# Altium footprint library PcbLib1.PcbLib: 37 footprints (part 1 of 3)
Each footprint in its own frame and in the unit in brackets; x right, y up, seen from the top. Pads: shape width x height; smd on the part's side, far side on the other; paste and mask are expansions set on the pad; w line width, h text height; cw(c..) or ccw(c..) is an arc to the next point about the centre after c.
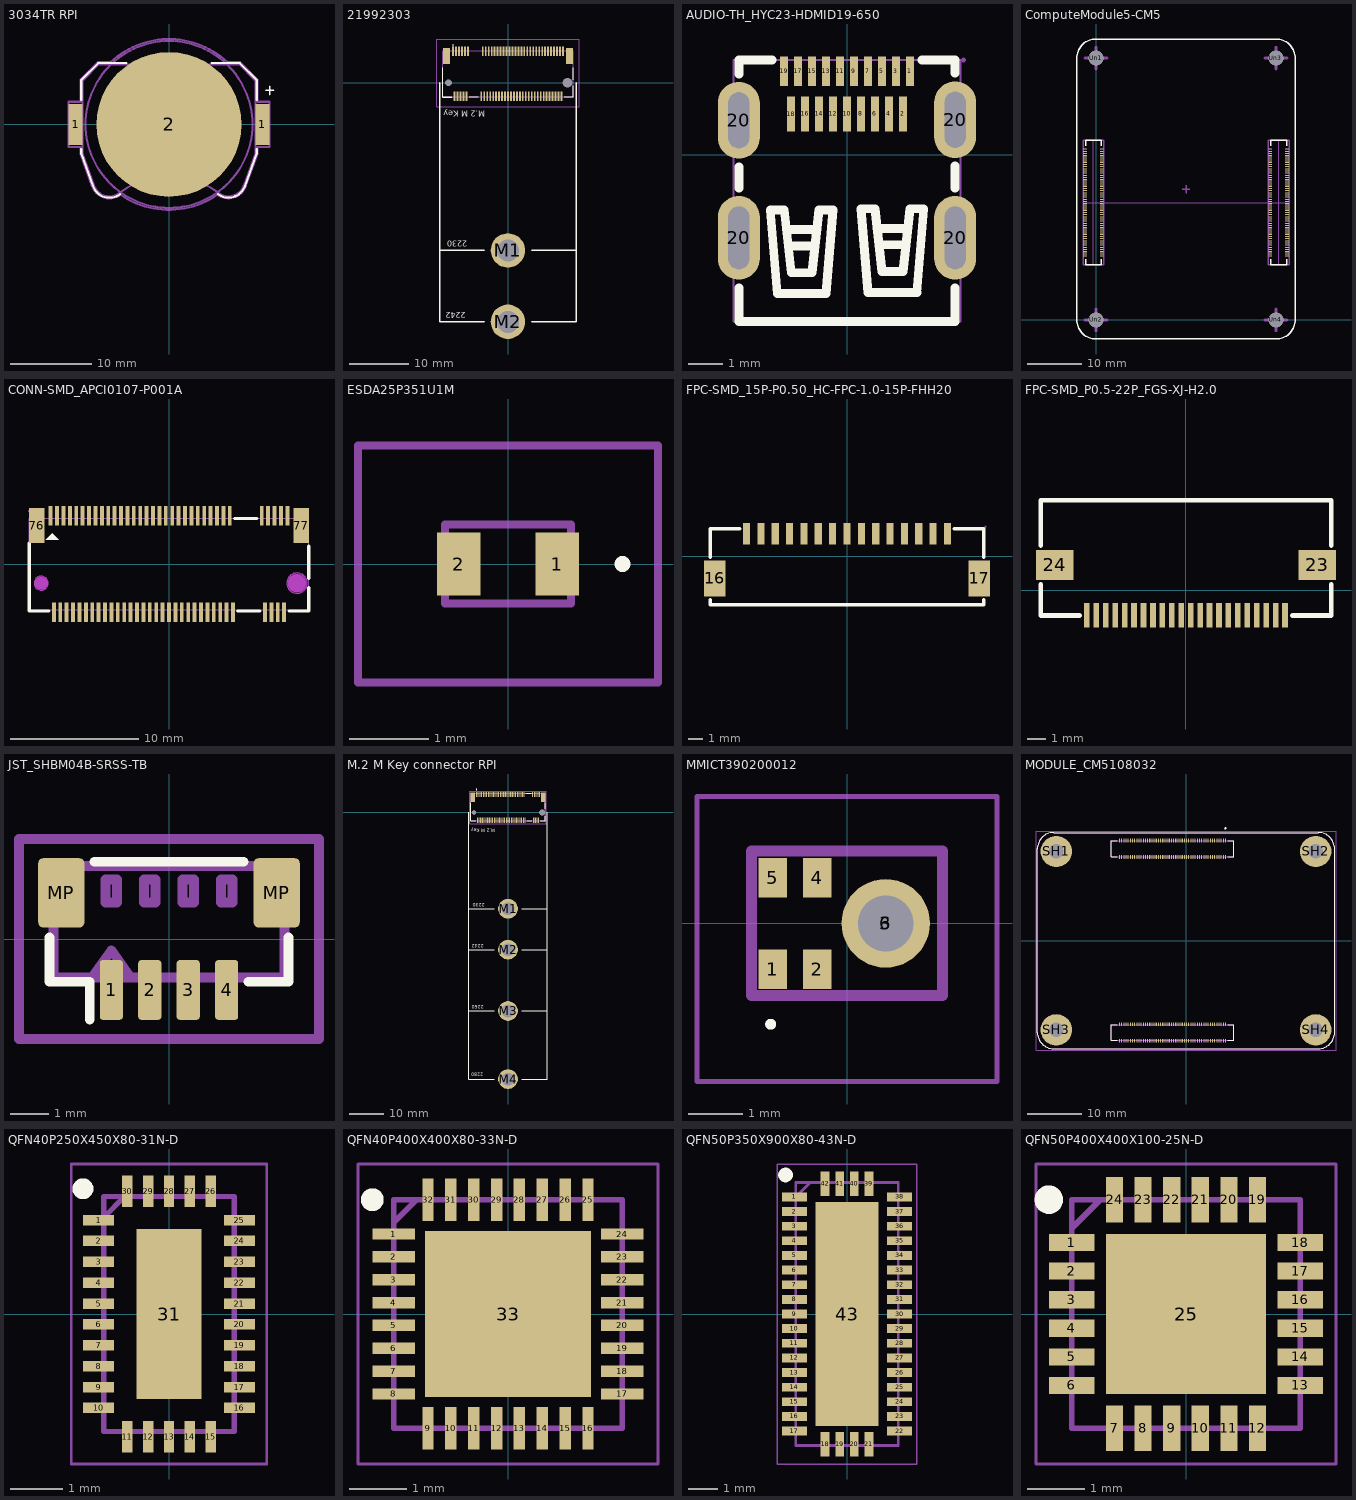
[diagram p0: the footprints below, top view; thin cyan lines are the x and y axes]

## 3034TR RPI [mm]
pads (3):
  rect 1.77x5.08 smd mask+0: 1(-11.485,0) 1(11.485,0)
  round 17.8 smd paste-17.8 mask+0: 2(0,0)
Top Overlay:
  lines w0.2: 11.881,4.185 12.881,4.185 ; 12.381,3.685 12.381,4.685
  lines w0.254: -10.78,-3 -10.78,-3.63 -9.34,-7.58 ccw(c-7.31,-6.85) -6.003,-8.567 ; -10.78,3 -10.78,5.46 -8.7,7.54 -5.2,7.54 ; 5.2,7.54 8.7,7.54 10.78,5.46 10.78,3 ; 6,-8.55 ccw(c7.31,-6.85) 9.325,-7.588 ; 9.34,-7.58 10.78,-3.63 10.78,-3
Mechanical 2:
  circle w0.254: c0,0 r10.25
Mechanical 4:
  lines w0.254: -9.44,-7.62 -10.88,-3.64 -10.88,-2.79 -12.37,-2.79 -12.37,2.79 -10.88,2.79 -10.88,5.5 -8.74,7.64 -7.2,7.64 cw(c0,0) 7.2,7.64 8.74,7.64 10.88,5.5 10.88,2.79 12.37,2.79 12.37,-2.79 10.88,-2.79 10.88,-3.64 9.43,-7.63 ; -9.43,-7.62 ccw(c-7.31,-6.85) -5.957,-8.655 ; -5.96,-8.64 ccw(c0,0) 5.945,-8.65 ; 5.96,-8.64 ccw(c7.31,-6.85) 9.415,-7.621
Mechanical 6:
  lines w0.254: -6.096,-8.439 cw(c-7.31,-6.85) -9.19,-7.53 -10.63,-3.6 -10.63,5.4 -8.64,7.39 8.64,7.39 10.63,5.4 10.63,-3.6 9.19,-7.53 ; -6.095,-8.426 cw(c0,-16.36) 6.1,-8.43 ccw(c7.31,-6.85) 9.181,-7.529
  text "'.Designator'" at 1.107,3.55 h1
3D body "Batt_Keystone_3034TR_eec.STEP": height 4.32, standoff 0, extent -11.62,-8.732 11.62,7.744

## 21992303 [mm]
pads (77):
  rect 0.3x1.55 smd: 1(-9.25,5.275) 2(-9,-2.275) 3(-8.75,5.275) 4(-8.5,-2.275) 5(-8.25,5.275) 6(-8,-2.275) 7(-7.75,5.275) 8(-7.5,-2.275) 9(-7.25,5.275) 10(-7,-2.275) 11(-6.75,5.275) 20(-4.5,-2.275) 21(-4.25,5.275) 22(-4,-2.275) 23(-3.75,5.275) 24(-3.5,-2.275) 25(-3.25,5.275) 26(-3,-2.275) 27(-2.75,5.275) 28(-2.5,-2.275) 29(-2.25,5.275) 30(-2,-2.275) 31(-1.75,5.275) 32(-1.5,-2.275) 33(-1.25,5.275) 34(-1,-2.275) 35(-0.75,5.275) 36(-0.5,-2.275) 37(-0.25,5.275) 38(0,-2.275) 39(0.25,5.275) 40(0.5,-2.275) 41(0.75,5.275) 42(1,-2.275) 43(1.25,5.275) 44(1.5,-2.275) 45(1.75,5.275) 46(2,-2.275) 47(2.25,5.275) 48(2.5,-2.275) 49(2.75,5.275) 50(3,-2.275) 51(3.25,5.275) 52(3.5,-2.275) 53(3.75,5.275) 54(4,-2.275) 55(4.25,5.275) 56(4.5,-2.275) 57(4.75,5.275) 58(5,-2.275) 59(5.25,5.275) 60(5.5,-2.275) 61(5.75,5.275) 62(6,-2.275) 63(6.25,5.275) 64(6.5,-2.275) 65(6.75,5.275) 66(7,-2.275) 67(7.25,5.275) 68(7.5,-2.275) 69(7.75,5.275) 70(8,-2.275) 71(8.25,5.275) 72(8.5,-2.275) 73(8.75,5.275) 74(9,-2.275) 75(9.25,5.275)
  rect 0.3x1.55 smd mask+0.102: 2(-9.015,-2.261) 4(-8.515,-2.261) 6(-8.015,-2.261) 8(-7.515,-2.261)
  rect 1.2x2.75 smd: 76(-10.35,4.5) 77(10.35,4.5)
  round 0.575 hole 1.15 unplated: 78(-10,0)
  round 0.825 hole 1.65 unplated: 79(10,0)
  round 5.8 hole 3.7 paste-2539.97 mask+0.2: M1(-0.015,-28.236) M2(-0.015,-40.236)
Top Overlay:
  lines w0.1: -10.95,2.5 -10.95,-2.375 -9.5,-2.375 ; -6.5,-2.375 -5,-2.375 ; 9.5,-2.375 10.95,-2.375 10.95,-0.5 ; 10.95,0.5 10.95,2.5 ; -9.3,6.3 ccw(c-9.25,6.3) -9.2,6.3 ccw(c-9.25,6.3) -9.3,6.3
  lines w0.254: -11.515,-40.236 -4.015,-40.236 ; -11.515,-40.132 -11.515,0.014 ; -11.515,-28.236 -4.015,-28.236 ; -11.015,-2.466 -9.485,-2.466 ; 3.985,-40.236 11.485,-40.236 ; 3.985,-28.236 11.485,-28.236 ; 11.485,-40.132 11.485,0.014
  text "2242" at -7.121,-38.628 h1
  text "2230" at -6.871,-26.628 h1
  text "M.2 M Key" at -3.815,-4.72 h1
Mechanical 13:
  lines w0.2: -10.95,-2.375 -10.95,5.375 10.95,5.375 10.95,-2.375 -10.95,-2.375
Mechanical 15:
  lines w0.1: -11.95,-4.05 -11.95,7.35 11.95,7.35 11.95,-4.05 -11.95,-4.05
3D body "User Library-M_2_3042_Key_B_card.STEP": height 4.23, standoff 1.93, extent -15.254,-40.73 14.746,1.27
3D body "2199230-3.stp": height 4.08, standoff -0.63, extent -10.95,-2.82 10.95,5.88

## AUDIO-TH_HYC23-HDMID19-650 [mm]
pads (23):
  rect 0.23x0.85 smd paste-100 mask+0.051: 1(1.8,2.387) 3(1.4,2.387) 5(1,2.387) 7(0.6,2.387) 9(0.2,2.387) 11(-0.2,2.387) 13(-0.6,2.387) 15(-1,2.387) 17(-1.4,2.387) 19(-1.8,2.387)
  rect 0.23x1 smd paste-100 mask+0.051: 2(1.6,1.163) 4(1.2,1.163) 6(0.8,1.163) 8(0.4,1.163) 10(0,1.163) 12(-0.4,1.163) 14(-0.8,1.163) 16(-1.2,1.163) 18(-1.6,1.162)
  oval 1.2x2.4 hole 0.6 slot 1.8 at 90 deg: 20(-3.1,-2.387) 20(3.1,-2.387)
  oval 1.2x2.2 hole 0.6 slot 1.6 at 90 deg: 20(-3.1,0.983) 20(3.1,1)
Top Overlay:
  lines w0.254: -3.1,-3.819 -3.1,-4.787 3.1,-4.787 3.1,-3.819 ; -3.1,-0.956 -3.1,-0.349 ; -3.1,2.314 -3.1,2.713 -2.146,2.713 ; -1.738,-2.148 -0.863,-2.15 ; -1.685,-2.621 -0.915,-2.62 ; 0.864,-2.115 1.739,-2.117 ; 0.916,-2.588 1.687,-2.587 ; 2.146,2.713 3.1,2.713 3.1,2.331 ; 3.1,-0.956 3.1,-0.332 ; -2.2,-1.587 -2,-3.987 -0.8,-3.987 -0.6,-3.987 -0.4,-1.587 -0.8,-1.587 -1,-3.387 -1.4,-3.387 -1.6,-3.387 -1.8,-1.587 -2.2,-1.587 ; 0.402,-1.554 0.602,-3.954 1.802,-3.954 2.002,-3.954 2.202,-1.554 1.802,-1.554 1.602,-3.354 1.202,-3.354 1.002,-3.354 0.802,-1.554 0.402,-1.554
Top Paste:
  drawing of 23 lines, arcs and shapes, not listed
Mechanical 15:
  region: 3.4,2.713 3.4,2.688 3.365,2.653 3.315,2.653 3.28,2.688 3.28,2.713 3.28,2.737 3.315,2.773 3.365,2.773 3.4,2.737
  region: 2.86,0.5 2.86,1.5 3.34,1.5 3.34,0.5
  region: -3.34,0.483 -3.34,1.483 -2.86,1.483 -2.86,0.483
  region: -3.34,-2.987 -3.34,-1.787 -2.86,-1.787 -2.86,-2.987
  region: 2.86,-2.987 2.86,-1.787 3.34,-1.787 3.34,-2.987
  region: -1.881,2.685 -1.72,2.685 -1.72,2.09 -1.881,2.09
  region: -1.68,1.513 -1.519,1.513 -1.519,0.813 -1.68,0.813
  region: -1.481,2.685 -1.32,2.685 -1.32,2.09 -1.481,2.09
  region: -1.28,1.513 -1.119,1.513 -1.119,0.813 -1.28,0.813
  region: -1.081,2.685 -0.919,2.685 -0.919,2.09 -1.081,2.09
  region: -0.881,1.513 -0.72,1.513 -0.72,0.813 -0.881,0.813
  region: -0.68,2.685 -0.519,2.685 -0.519,2.09 -0.68,2.09
  region: -0.481,1.513 -0.32,1.513 -0.32,0.813 -0.481,0.813
  region: -0.28,2.685 -0.119,2.685 -0.119,2.09 -0.28,2.09
  region: -0.081,1.513 0.081,1.513 0.081,0.813 -0.081,0.813
  region: 0.119,2.685 0.28,2.685 0.28,2.09 0.119,2.09
  region: 0.32,1.513 0.481,1.513 0.481,0.813 0.32,0.813
  region: 0.519,2.685 0.68,2.685 0.68,2.09 0.519,2.09
  region: 0.72,1.513 0.881,1.513 0.881,0.813 0.72,0.813
  region: 0.919,2.685 1.081,2.685 1.081,2.09 0.919,2.09
  region: 1.119,1.513 1.28,1.513 1.28,0.813 1.119,0.813
  region: 1.32,2.685 1.481,2.685 1.481,2.09 1.32,2.09
  region: 1.519,1.513 1.68,1.513 1.68,0.813 1.519,0.813
  region: 1.72,2.685 1.881,2.685 1.881,2.09 1.72,2.09
  lines w0.051: -3.25,-4.787 -3.25,2.713 3.25,2.713 3.25,-4.787 -3.25,-4.787

## ComputeModule5-CM5 [mm]
pads (204):
  rect 0.7x0.2 smd mask+0: 1(-2.04,31.3) 2(1.04,31.3) 3(-2.04,30.9) 4(1.04,30.9) 5(-2.04,30.5) 6(1.04,30.5) 7(-2.04,30.1) 8(1.04,30.1) 9(-2.04,29.7) 10(1.04,29.7) 11(-2.04,29.3) 12(1.04,29.3) 13(-2.04,28.9) 14(1.04,28.9) 15(-2.04,28.5) 16(1.04,28.5) 17(-2.04,28.1) 18(1.04,28.1) 19(-2.04,27.7) 20(1.04,27.7) 21(-2.04,27.3) 22(1.04,27.3) 23(-2.04,26.9) 24(1.04,26.9) 25(-2.04,26.5) 26(1.04,26.5) 27(-2.04,26.1) 28(1.04,26.1) 29(-2.04,25.7) 30(1.04,25.7) 31(-2.04,25.3) 32(1.04,25.3) 33(-2.04,24.9) 34(1.04,24.9) 35(-2.04,24.5) 36(1.04,24.5) 37(-2.04,24.1) 38(1.04,24.1) 39(-2.04,23.7) 40(1.04,23.7) 41(-2.04,23.3) 42(1.04,23.3) 43(-2.04,22.9) 44(1.04,22.9) 45(-2.04,22.5) 46(1.04,22.5) 47(-2.04,22.1) 48(1.04,22.1) 49(-2.04,21.7) 50(1.04,21.7) 51(-2.04,21.3) 52(1.04,21.3) 53(-2.04,20.9) 54(1.04,20.9) 55(-2.04,20.5) 56(1.04,20.5) 57(-2.04,20.1) 58(1.04,20.1) 59(-2.04,19.7) 60(1.04,19.7) 61(-2.04,19.3) 62(1.04,19.3) 63(-2.04,18.9) 64(1.04,18.9) 65(-2.04,18.5) 66(1.04,18.5) 67(-2.04,18.1) 68(1.04,18.1) 69(-2.04,17.7) 70(1.04,17.7) 71(-2.04,17.3) 72(1.04,17.3) 73(-2.04,16.9) 74(1.04,16.9) 75(-2.04,16.5) 76(1.04,16.5) 77(-2.04,16.1) 78(1.04,16.1) 79(-2.04,15.7) 80(1.04,15.7) 81(-2.04,15.3) 82(1.04,15.3) 83(-2.04,14.9) 84(1.04,14.9) 85(-2.04,14.5) 86(1.04,14.5) 87(-2.04,14.1) 88(1.04,14.1) 89(-2.04,13.7) 90(1.04,13.7) 91(-2.04,13.3) 92(1.04,13.3) 93(-2.04,12.9) 94(1.04,12.9) 95(-2.04,12.5) 96(1.04,12.5) 97(-2.04,12.1) 98(1.04,12.1) 99(-2.04,11.7) 100(1.04,11.7) 101(31.96,31.3) 102(35.04,31.3) 103(31.96,30.9) 104(35.04,30.9) 105(31.96,30.5) 106(35.04,30.5) 107(31.96,30.1) 108(35.04,30.1) 109(31.96,29.7) 110(35.04,29.7) 111(31.96,29.3) 112(35.04,29.3) 113(31.96,28.9) 114(35.04,28.9) 115(31.96,28.5) 116(35.04,28.5) 117(31.96,28.1) 118(35.04,28.1) 119(31.96,27.7) 120(35.04,27.7) 121(31.96,27.3) 122(35.04,27.3) 123(31.96,26.9) 124(35.04,26.9) 125(31.96,26.5) 126(35.04,26.5) 127(31.96,26.1) 128(35.04,26.1) 129(31.96,25.7) 130(35.04,25.7) 131(31.96,25.3) 132(35.04,25.3) 133(31.96,24.9) 134(35.04,24.9) 135(31.96,24.5) 136(35.04,24.5) 137(31.96,24.1) 138(35.04,24.1) 139(31.96,23.7) 140(35.04,23.7) 141(31.96,23.3) 142(35.04,23.3) 143(31.96,22.9) 144(35.04,22.9) 145(31.96,22.5) 146(35.04,22.5) 147(31.96,22.1) 148(35.04,22.1) 149(31.96,21.7) 150(35.04,21.7) 151(31.96,21.3) 152(35.04,21.3) 153(31.96,20.9) 154(35.04,20.9) 155(31.96,20.5) 156(35.04,20.5) 157(31.96,20.1) 158(35.04,20.1) 159(31.96,19.7) 160(35.04,19.7) 161(31.96,19.3) 162(35.04,19.3) 163(31.96,18.9) 164(35.04,18.9) 165(31.96,18.5) 166(35.04,18.5) 167(31.96,18.1) 168(35.04,18.1) 169(31.96,17.7) 170(35.04,17.7) 171(31.96,17.3) 172(35.04,17.3) 173(31.96,16.9) 174(35.04,16.9) 175(31.96,16.5) 176(35.04,16.5) 177(31.96,16.1) 178(35.04,16.1) 179(31.96,15.7) 180(35.04,15.7) 181(31.96,15.3) 182(35.04,15.3) 183(31.96,14.9) 184(35.04,14.9) 185(31.96,14.5) 186(35.04,14.5) 187(31.96,14.1) 188(35.04,14.1) 189(31.96,13.7) 190(35.04,13.7) 191(31.96,13.3) 192(35.04,13.3) 193(31.96,12.9) 194(35.04,12.9) 195(31.96,12.5) 196(35.04,12.5) 197(31.96,12.1) 198(35.04,12.1) 199(31.96,11.7) 200(35.04,11.7)
  round 2.7 hole 2.7 paste-2539.97 mask+1.7: Un1(0,48) Un2(0,0) Un3(33,48) Un4(33,0)
Top Overlay:
  lines w0.254: -1.86,11.1 -1.86,10.1 0.94,10.1 0.94,11.1 ; -1.86,31.9 -1.86,32.9 0.94,32.9 0.94,31.9 ; 32.06,11.1 32.06,10.1 34.94,10.1 34.94,11.1 ; 32.06,31.9 32.06,32.9 34.94,32.9 34.94,31.9 ; -3.5,0 ccw(c0,0) 0,-3.5 33,-3.5 ccw(c33,0) 36.5,0 36.5,48 ccw(c33,48) 33,51.5 0,51.5 ccw(c0,48) -3.5,48 -3.5,0
Mechanical 2:
  lines w0.12: -2.35,21.5 1.43,21.5 ; -0.5,10.1 -0.5,32.9 ; -0.35,21.5 33,21.5 ; 31.55,21.5 35.33,21.5 ; 33.5,10.1 33.5,32.9
  lines w0.254: 15.8,24 17.2,24 15.8,24 ; 16.5,23.2 16.5,24.7 16.5,23.2
  lines w0.5: -2,0 0,0 ; -2,48 0,48 ; 0,-2 0,0 ; 0,2 0,0 ; 0,46 0,48 ; 0,50 0,48 ; 2,0 0,0 ; 2,48 0,48 ; 31,0 33,0 ; 31,48 33,48 ; 33,-2 33,0 ; 33,2 33,0 ; 33,46 33,48 ; 33,50 33,48 ; 35,0 33,0 ; 35,48 33,48
Mechanical 4:
  lines w0.254: -2.31,10.1 -2.31,32.9 1.39,32.9 1.39,10.1 -2.31,10.1 ; 31.61,10.1 31.61,32.9 35.39,32.9 35.39,10.1 31.61,10.1
3D body "10164227-1001a1rlf.stp": height 1.41, standoff -0.04, extent -2.18,10.211 1.2,32.811
3D body "10164227-1001a1rlf.stp": height 1.41, standoff -0.04, extent 31.82,10.211 35.2,32.811

## CONN-SMD_APCI0107-P001A [mm]
pads (69):
  rect 0.3x1.55 smd: 1(-9.25,3.775) 2(-9,-3.775) 3(-8.75,3.775) 4(-8.5,-3.775) 5(-8.25,3.775) 6(-8,-3.775) 7(-7.75,3.775) 8(-7.5,-3.775) 9(-7.25,3.775) 10(-7,-3.775) 11(-6.75,3.775) 12(-6.5,-3.775) 13(-6.25,3.775) 14(-6,-3.775) 15(-5.75,3.775) 16(-5.5,-3.775) 17(-5.25,3.775) 18(-5,-3.775) 19(-4.75,3.775) 20(-4.5,-3.775) 21(-4.25,3.775) 22(-4,-3.775) 23(-3.75,3.775) 24(-3.5,-3.775) 25(-3.25,3.775) 26(-3,-3.775) 27(-2.75,3.775) 28(-2.5,-3.775) 29(-2.25,3.775) 30(-2,-3.775) 31(-1.75,3.775) 32(-1.5,-3.775) 33(-1.25,3.775) 34(-1,-3.775) 35(-0.75,3.775) 36(-0.5,-3.775) 37(-0.25,3.775) 38(0,-3.775) 39(0.25,3.775) 40(0.5,-3.775) 41(0.75,3.775) 42(1,-3.775) 43(1.25,3.775) 44(1.5,-3.775) 45(1.75,3.775) 46(2,-3.775) 47(2.25,3.775) 48(2.5,-3.775) 49(2.75,3.775) 50(3,-3.775) 51(3.25,3.775) 52(3.5,-3.775) 53(3.75,3.775) 54(4,-3.775) 55(4.25,3.775) 56(4.5,-3.775) 57(4.75,3.775) 58(5,-3.775) 67(7.25,3.775) 68(7.5,-3.775) 69(7.75,3.775) 70(8,-3.775) 71(8.25,3.775) 72(8.5,-3.775) 73(8.75,3.775) 74(9,-3.775) 75(9.25,3.775)
  rect 1.2x2.75 smd: 76(-10.35,3) 77(10.35,3)
Top Overlay:
  region: -9.144,2.413 -9.652,1.905 -8.636,1.905
  lines w0.254: -10.922,1.651 -10.922,-3.683 -9.381,-3.683 ; 5.131,3.556 6.869,3.556 ; 5.381,-3.683 7.119,-3.683 ; 9.381,-3.683 10.922,-3.683 10.922,-1.865 ; 10.922,-1.136 10.922,1.394
Keep-Out Layer:
  board cut-out: -9.45,-1.5 -9.45,-1.61 -9.534,-1.812 -9.688,-1.966 -9.891,-2.05 -10.109,-2.05 -10.312,-1.966 -10.466,-1.812 -10.55,-1.61 -10.55,-1.5 -10.55,-1.391 -10.466,-1.189 -10.312,-1.034 -10.109,-0.95 -9.891,-0.95 -9.688,-1.034 -9.534,-1.189 -9.45,-1.391
  board cut-out: 10.8,-1.5 10.8,-1.605 10.745,-1.809 10.64,-1.991 10.491,-2.14 10.309,-2.246 10.105,-2.3 9.895,-2.3 9.691,-2.246 9.509,-2.14 9.36,-1.991 9.255,-1.809 9.2,-1.605 9.2,-1.5 9.2,-1.395 9.255,-1.191 9.36,-1.009 9.509,-0.86 9.691,-0.755 9.895,-0.7 10.105,-0.7 10.309,-0.755 10.491,-0.86 10.64,-1.009 10.745,-1.191 10.8,-1.395
Keep-Out Layer:
  circle w0.025: c-10,-1.5 r0.55
  circle w0.025: c10,-1.5 r0.8
  region: -9.45,-1.5 -9.45,-1.61 -9.534,-1.812 -9.688,-1.966 -9.891,-2.05 -10.109,-2.05 -10.312,-1.966 -10.466,-1.812 -10.55,-1.61 -10.55,-1.5 -10.55,-1.391 -10.466,-1.189 -10.312,-1.034 -10.109,-0.95 -9.891,-0.95 -9.688,-1.034 -9.534,-1.189 -9.45,-1.391
  region: 10.8,-1.5 10.8,-1.605 10.745,-1.809 10.64,-1.991 10.491,-2.14 10.309,-2.246 10.105,-2.3 9.895,-2.3 9.691,-2.246 9.509,-2.14 9.36,-1.991 9.255,-1.809 9.2,-1.605 9.2,-1.5 9.2,-1.395 9.255,-1.191 9.36,-1.009 9.509,-0.86 9.691,-0.755 9.895,-0.7 10.105,-0.7 10.309,-0.755 10.491,-0.86 10.64,-1.009 10.745,-1.191 10.8,-1.395
Mechanical 1:
  circle w0.025: c-10,-1.5 r0.55
  circle w0.025: c10,-1.5 r0.8
Mechanical 6:
  circle w0.7: c10,-1.5 r0.35
  circle w0.5: c-10,-1.5 r0.25
Mechanical 15:
  drawing of 74 lines, arcs and shapes, not listed

## ESDA25P351U1M [mm]
pads (2):
  rect 0.55x0.8 smd: 1(0.625,0) 2(-0.625,0)
Top Overlay:
  lines w0.1: 1.4,0 ccw(c1.45,0) 1.5,0 ccw(c1.45,0) 1.4,0
Mechanical 13:
  lines w0.1: -0.8,-0.5 -0.8,0.5 0.8,0.5 0.8,-0.5 -0.8,-0.5
Mechanical 15:
  lines w0.1: -1.9,-1.5 1.9,-1.5 1.9,1.5 -1.9,1.5 -1.9,-1.5
3D body "ESDA25P35-1U1M.stp": height 0.57, standoff 0, extent -0.8,-0.5 0.8,0.5

## FPC-SMD_15P-P0.50_HC-FPC-1.0-15P-FHH20 [mm]
pads (17):
  rect 0.5x1.5 smd paste+0 mask+0.05: 1(7,1.55) 2(6,1.55) 3(5,1.55) 4(4,1.55) 5(3,1.55) 6(2,1.55) 7(1,1.55) 8(0,1.55) 9(-1,1.55) 10(-2,1.55) 11(-3,1.55) 12(-4,1.55) 13(-5,1.55) 14(-6,1.55) 15(-7,1.55)
  rect 1.5x2.5 smd paste+0 mask+0.05: 16(-9.2,-1.55) 17(9.2,-1.55)
Top Overlay:
  lines w0.254: -9.52,-3.031 -9.52,-3.4 -4.52,-3.4 9.52,-3.4 9.52,-3.031 ; -9.52,-0.069 -9.52,1.905 ; 7.48,1.904 9.52,1.904 9.52,-0.069 ; -9.52,1.905 -7.481,1.905 -9.52,1.905
Mechanical 15:
  region: 9.71,2.05 9.71,2.025 9.675,1.99 9.625,1.99 9.59,2.025 9.59,2.05 9.59,2.075 9.625,2.11 9.675,2.11 9.71,2.075

## FPC-SMD_P0.5-22P_FGS-XJ-H2.0 [mm]
pads (24):
  rect 0.3x1.3 smd paste+0 mask+0.051: 1(-5.252,-1.338) 2(-4.752,-1.338) 3(-4.252,-1.338) 4(-3.752,-1.338) 5(-3.252,-1.338) 6(-2.752,-1.338) 7(-2.252,-1.338) 8(-1.752,-1.338) 9(-1.25,-1.339) 10(-0.752,-1.338) 11(-0.252,-1.338) 12(0.248,-1.338) 13(0.748,-1.338) 14(1.248,-1.338) 15(1.748,-1.338) 16(2.248,-1.338) 17(2.748,-1.338) 18(3.248,-1.338) 19(3.748,-1.338) 20(4.25,-1.339) 21(4.748,-1.338) 22(5.248,-1.338)
  rect 2x1.6 smd paste+0 mask+0.051: 23(6.95,1.339) 24(-6.95,1.339)
Top Overlay:
  lines w0.254: -7.7,0.308 -7.7,-1.341 -5.633,-1.341 ; -7.7,2.37 -7.7,4.759 7.7,4.759 7.7,2.37 ; 5.629,-1.341 7.7,-1.341 7.7,0.308

## JST_SHBM04B-SRSS-TB [mm]
pads (6):
  rrect25% 0.6x1.55 smd mask+0: 1(-1.5,-1.325) 2(-0.5,-1.325) 3(0.5,-1.325) 4(1.5,-1.325)
  rrect21% 1.2x1.8 smd mask+0: MP(-2.8,1.2) MP(2.8,1.2)
Top Overlay:
  lines w0.254: -3.11,0.04 -3.11,-1.11 -2.06,-1.11 -2.06,-2.1 ; -1.94,2.01 1.94,2.01 ; 2.06,-1.11 3.11,-1.11 3.11,0.04
Mechanical 4:
  lines w0.254: -3.9,-2.6 -3.9,2.6 3.9,2.6 3.9,-2.6 -3.9,-2.6
Mechanical 6:
  lines w0.254: -2,-1 -1.5,-0.293 -1,-1 ; -3,-1 -3,1.9 3,1.9 3,-1 -3,-1 ; -1.65,0.95 -1.65,1.55 -1.35,1.55 -1.35,0.95 -1.65,0.95 ; -0.65,0.95 -0.65,1.55 -0.35,1.55 -0.35,0.95 -0.65,0.95 ; 0.35,0.95 0.35,1.55 0.65,1.55 0.65,0.95 0.35,0.95 ; 1.35,0.95 1.35,1.55 1.65,1.55 1.65,0.95 1.35,0.95
  text "'.Designator'" at -1.24,-0.4 h1
3D body "Conn_JST_BM04B-SRSS-TBT_LF_SN_eec.STEP": height 0.25, standoff 0, extent -3.5,-2.4 3.5,2

## M.2 M Key connector RPI [mm]
pads (75):
  rect 0.3x1.55 smd mask+0.102: 1(-9.25,5.275) 2(-9,-2.275) 3(-8.75,5.275) 4(-8.5,-2.275) 5(-8.25,5.275) 6(-8,-2.275) 7(-7.75,5.275) 8(-7.5,-2.275) 9(-7.25,5.275) 10(-7,-2.275) 11(-6.75,5.275) 12(-6.5,-2.275) 13(-6.25,5.275) 14(-6,-2.275) 15(-5.75,5.275) 16(-5.5,-2.275) 17(-5.25,5.275) 18(-5,-2.275) 19(-4.75,5.275) 20(-4.5,-2.275) 21(-4.25,5.275) 22(-4,-2.275) 23(-3.75,5.275) 24(-3.5,-2.275) 25(-3.25,5.275) 26(-3,-2.275) 27(-2.75,5.275) 28(-2.5,-2.275) 29(-2.25,5.275) 30(-2,-2.275) 31(-1.75,5.275) 32(-1.5,-2.275) 33(-1.25,5.275) 34(-1,-2.275) 35(-0.75,5.275) 36(-0.5,-2.275) 37(-0.25,5.275) 38(0,-2.275) 39(0.25,5.275) 40(0.5,-2.275) 41(0.75,5.275) 42(1,-2.275) 43(1.25,5.275) 44(1.5,-2.275) 45(1.75,5.275) 46(2,-2.275) 47(2.25,5.275) 48(2.5,-2.275) 49(2.75,5.275) 50(3,-2.275) 51(3.25,5.275) 52(3.5,-2.275) 53(3.75,5.275) 54(4,-2.275) 55(4.25,5.275) 56(4.5,-2.275) 57(4.75,5.275) 58(5,-2.275) 67(7.25,5.275) 68(7.5,-2.275) 69(7.75,5.275) 70(8,-2.275) 71(8.25,5.275) 72(8.5,-2.275) 73(8.75,5.275) 74(9,-2.275) 75(9.25,5.275)
  round 5.8 hole 3.7 paste-2539.97 mask+0.2: M1(0,-28.25) M2(0,-40.25) M3(0,-58.25) M4(0,-78.25)
  rect 1.2x2.75 smd mask+0.102: S1(-10.35,4.5) S2(10.35,4.5)
  round 1.15 hole 1.15 paste-2539.97 mask+0: Un1(-10,0)
  round 1.65 hole 1.65 paste-2539.97 mask+0: Un2(10,0)
Top Overlay:
  circle w0.254: c-9.25,6.796 r0.1
  lines w0.254: -11.5,-58.25 -4,-58.25 ; -11.5,-40.25 -4,-40.25 ; -11.5,-28.25 -4,-28.25 ; -11.5,0 -11.5,-78.25 -4,-78.25 ; -11,2.805 -11,-2.48 -9.47,-2.48 ; 4,-78.25 11.5,-78.25 11.5,0 ; 4,-58.25 11.5,-58.25 ; 4,-40.25 11.5,-40.25 ; 4,-28.25 11.5,-28.25 ; 5.213,5.7 6.776,5.7 ; 5.463,-2.48 7.027,-2.48 ; 9.47,-2.48 11,-2.48 11,-1.145 ; 11,1.145 11,2.805
  text "2242" at -7.106,-38.642 h1
  text "M.2 M Key" at -3.8,-4.733 h1
  text "2260" at -7.106,-56.642 h1
  text "2280" at -7.239,-76.454 h1
  text "2230" at -6.856,-26.642 h1
Mechanical 4:
  lines w0.254: -11.25,-3.3 -11.25,6.3 11.25,6.3 11.25,-3.3 -11.25,-3.3
Mechanical 6:
  circle w0.254: c-9.25,6.796 r0.1
  lines w0.254: -11,-2.48 -11,5.7 11,5.7 11,-2.48 -11,-2.48
3D body "Conn_TE_1-2199230-6_eec.STEP": height 0.25, standoff 0, extent -11.1,-3.15 11.1,6.15

## MMICT390200012 [mm]
pads (6):
  rect 0.522x0.725 smd: 1(-1.364,-0.838) 2(-0.542,-0.838) 4(-0.542,0.837) 5(-1.364,0.837)
  round 1.625 smd: 3(0.71,0)
  round 0.512 hole 1.025 unplated: 6(0.71,0)
Top Overlay:
  lines w0.1: -1.4,-1.9 ccw(c-1.4,-1.85) -1.4,-1.8 ccw(c-1.4,-1.85) -1.4,-1.9
Mechanical 13:
  lines w0.2: -1.75,-1.325 -1.75,1.325 1.75,1.325 1.75,-1.325 -1.75,-1.325
Mechanical 15:
  lines w0.1: -2.75,-2.9 -2.75,2.325 2.75,2.325 2.75,-2.9 -2.75,-2.9
3D body "MMICT3902-00-012.stp": height 0.98, standoff 0, extent -1.75,-1.315 1.75,1.335

## MODULE_CM5108032 [mm]
height 7.44
pads (204):
  rect 0.2x0.7 smd paste+0 mask+0.102: 1(7.3,18.54) 2(7.3,15.46) 3(6.9,18.54) 4(6.9,15.46) 5(6.5,18.54) 6(6.5,15.46) 7(6.1,18.54) 8(6.1,15.46) 9(5.7,18.54) 10(5.7,15.46) 11(5.3,18.54) 12(5.3,15.46) 13(4.9,18.54) 14(4.9,15.46) 15(4.5,18.54) 16(4.5,15.46) 17(4.1,18.54) 18(4.1,15.46) 19(3.7,18.54) 20(3.7,15.46) 21(3.3,18.54) 22(3.3,15.46) 23(2.9,18.54) 24(2.9,15.46) 25(2.5,18.54) 26(2.5,15.46) 27(2.1,18.54) 28(2.1,15.46) 29(1.7,18.54) 30(1.7,15.46) 31(1.3,18.54) 32(1.3,15.46) 33(0.9,18.54) 34(0.9,15.46) 35(0.5,18.54) 36(0.5,15.46) 37(0.1,18.54) 38(0.1,15.46) 39(-0.3,18.54) 40(-0.3,15.46) 41(-0.7,18.54) 42(-0.7,15.46) 43(-1.1,18.54) 44(-1.1,15.46) 45(-1.5,18.54) 46(-1.5,15.46) 47(-1.9,18.54) 48(-1.9,15.46) 49(-2.3,18.54) 50(-2.3,15.46) 51(-2.7,18.54) 52(-2.7,15.46) 53(-3.1,18.54) 54(-3.1,15.46) 55(-3.5,18.54) 56(-3.5,15.46) 57(-3.9,18.54) 58(-3.9,15.46) 59(-4.3,18.54) 60(-4.3,15.46) 61(-4.7,18.54) 62(-4.7,15.46) 63(-5.1,18.54) 64(-5.1,15.46) 65(-5.5,18.54) 66(-5.5,15.46) 67(-5.9,18.54) 68(-5.9,15.46) 69(-6.3,18.54) 70(-6.3,15.46) 71(-6.7,18.54) 72(-6.7,15.46) 73(-7.1,18.54) 74(-7.1,15.46) 75(-7.5,18.54) 76(-7.5,15.46) 77(-7.9,18.54) 78(-7.9,15.46) 79(-8.3,18.54) 80(-8.3,15.46) 81(-8.7,18.54) 82(-8.7,15.46) 83(-9.1,18.54) 84(-9.1,15.46) 85(-9.5,18.54) 86(-9.5,15.46) 87(-9.9,18.54) 88(-9.9,15.46) 89(-10.3,18.54) 90(-10.3,15.46) 91(-10.7,18.54) 92(-10.7,15.46) 93(-11.1,18.54) 94(-11.1,15.46) 95(-11.5,18.54) 96(-11.5,15.46) 97(-11.9,18.54) 98(-11.9,15.46) 99(-12.3,18.54) 100(-12.3,15.46) 101(7.3,-15.46) 102(7.3,-18.54) 103(6.9,-15.46) 104(6.9,-18.54) 105(6.5,-15.46) 106(6.5,-18.54) 107(6.1,-15.46) 108(6.1,-18.54) 109(5.7,-15.46) 110(5.7,-18.54) 111(5.3,-15.46) 112(5.3,-18.54) 113(4.9,-15.46) 114(4.9,-18.54) 115(4.5,-15.46) 116(4.5,-18.54) 117(4.1,-15.46) 118(4.1,-18.54) 119(3.7,-15.46) 120(3.7,-18.54) 121(3.3,-15.46) 122(3.3,-18.54) 123(2.9,-15.46) 124(2.9,-18.54) 125(2.5,-15.46) 126(2.5,-18.54) 127(2.1,-15.46) 128(2.1,-18.54) 129(1.7,-15.46) 130(1.7,-18.54) 131(1.3,-15.46) 132(1.3,-18.54) 133(0.9,-15.46) 134(0.9,-18.54) 135(0.5,-15.46) 136(0.5,-18.54) 137(0.1,-15.46) 138(0.1,-18.54) 139(-0.3,-15.46) 140(-0.3,-18.54) 141(-0.7,-15.46) 142(-0.7,-18.54) 143(-1.1,-15.46) 144(-1.1,-18.54) 145(-1.5,-15.46) 146(-1.5,-18.54) 147(-1.9,-15.46) 148(-1.9,-18.54) 149(-2.3,-15.46) 150(-2.3,-18.54) 151(-2.7,-15.46) 152(-2.7,-18.54) 153(-3.1,-15.46) 154(-3.1,-18.54) 155(-3.5,-15.46) 156(-3.5,-18.54) 157(-3.9,-15.46) 158(-3.9,-18.54) 159(-4.3,-15.46) 160(-4.3,-18.54) 161(-4.7,-15.46) 162(-4.7,-18.54) 163(-5.1,-15.46) 164(-5.1,-18.54) 165(-5.5,-15.46) 166(-5.5,-18.54) 167(-5.9,-15.46) 168(-5.9,-18.54) 169(-6.3,-15.46) 170(-6.3,-18.54) 171(-6.7,-15.46) 172(-6.7,-18.54) 173(-7.1,-15.46) 174(-7.1,-18.54) 175(-7.5,-15.46) 176(-7.5,-18.54) 177(-7.9,-15.46) 178(-7.9,-18.54) 179(-8.3,-15.46) 180(-8.3,-18.54) 181(-8.7,-15.46) 182(-8.7,-18.54) 183(-9.1,-15.46) 184(-9.1,-18.54) 185(-9.5,-15.46) 186(-9.5,-18.54) 187(-9.9,-15.46) 188(-9.9,-18.54) 189(-10.3,-15.46) 190(-10.3,-18.54) 191(-10.7,-15.46) 192(-10.7,-18.54) 193(-11.1,-15.46) 194(-11.1,-18.54) 195(-11.5,-15.46) 196(-11.5,-18.54) 197(-11.9,-15.46) 198(-11.9,-18.54) 199(-12.3,-15.46) 200(-12.3,-18.54)
  round 5.8 hole 2.7 mask+0.102: SH1(-24,16.5) SH2(24,16.5) SH3(-24,-16.5) SH4(24,-16.5)
Top Overlay:
  circle w0.2: c7.3,20.75 r0.1
  lines w0.127: -12.72,-18.44 -13.8,-18.44 -13.8,-15.56 -12.72,-15.56 ; -12.72,15.56 -13.8,15.56 -13.8,18.44 -12.72,18.44 ; 7.72,-18.44 8.8,-18.44 8.8,-15.56 7.72,-15.56 ; 7.72,15.56 8.8,15.56 8.8,18.44 7.72,18.44 ; -27.5,-17 ccw(c-24.5,-17) -24.5,-20 24.5,-20 ccw(c24.5,-17) 27.5,-17 27.5,17 ccw(c24.5,17) 24.5,20 -24.5,20 ccw(c-24.5,17) -27.5,17 -27.5,-17
Mechanical 13:
  circle w0.2: c7.3,20.75 r0.1
  lines w0.127: -27.5,-17 ccw(c-24.5,-17) -24.5,-20 24.5,-20 ccw(c24.5,-17) 27.5,-17 27.5,17 ccw(c24.5,17) 24.5,20 -24.5,20 ccw(c-24.5,17) -27.5,17 -27.5,-17 ; -13.8,-18.44 8.8,-18.44 8.8,-15.56 -13.8,-15.56 -13.8,-18.44 ; -13.8,15.56 8.8,15.56 8.8,18.44 -13.8,18.44 -13.8,15.56
  text "101-200" at -2.5,-17 h0.81
  text "1-100" at -2.5,17 h0.81
Mechanical 15:
  lines w0.05: -27.75,-20.25 27.75,-20.25 27.75,20.25 -27.75,20.25 -27.75,-20.25
3D body "step_temp.STEP": height 3.44, standoff -1.45, extent -27.5,-20 27.5,20

## QFN40P250X450X80-31N-D [mm]
pads (31):
  rect 0.6x0.2 smd: 1(-1.35,1.8) 2(-1.35,1.4) 3(-1.35,1) 4(-1.35,0.6) 5(-1.35,0.2) 6(-1.35,-0.2) 7(-1.35,-0.6) 8(-1.35,-1) 9(-1.35,-1.4) 10(-1.35,-1.8) 16(1.35,-1.8) 17(1.35,-1.4) 18(1.35,-1) 19(1.35,-0.6) 20(1.35,-0.2) 21(1.35,0.2) 22(1.35,0.6) 23(1.35,1) 24(1.35,1.4) 25(1.35,1.8)
  rect 0.2x0.6 smd: 11(-0.8,-2.35) 12(-0.4,-2.35) 13(0,-2.35) 14(0.4,-2.35) 15(0.8,-2.35) 26(0.8,2.35) 27(0.4,2.35) 28(0,2.35) 29(-0.4,2.35) 30(-0.8,2.35)
  rect 1.25x3.25 smd: 31(0,0)
Top Overlay:
  circle w0.2: c-1.65,2.4 r0.1
Mechanical 13:
  lines w0.1: -1.25,1.85 -0.85,2.25 ; -1.25,-2.25 -1.25,2.25 1.25,2.25 1.25,-2.25 -1.25,-2.25
Mechanical 15:
  lines w0.05: -1.875,-2.875 -1.875,2.875 1.875,2.875 1.875,-2.875 -1.875,-2.875
3D body "HD3SS3220RNHR.stp": height 0.8, standoff 0, extent -1.3,-2.3 1.3,2.3

## QFN40P400X400X80-33N-D [mm]
pads (33):
  rect 0.75x0.2 smd: 1(-2,1.4) 2(-2,1) 3(-2,0.6) 4(-2,0.2) 5(-2,-0.2) 6(-2,-0.6) 7(-2,-1) 8(-2,-1.4) 17(2,-1.4) 18(2,-1) 19(2,-0.6) 20(2,-0.2) 21(2,0.2) 22(2,0.6) 23(2,1) 24(2,1.4)
  rect 0.2x0.75 smd: 9(-1.4,-2) 10(-1,-2) 11(-0.6,-2) 12(-0.2,-2) 13(0.2,-2) 14(0.6,-2) 15(1,-2) 16(1.4,-2) 25(1.4,2) 26(1,2) 27(0.6,2) 28(0.2,2) 29(-0.2,2) 30(-0.6,2) 31(-1,2) 32(-1.4,2)
  rect 2.9x2.9 smd: 33(0,0)
Top Overlay:
  circle w0.2: c-2.375,2 r0.1
Mechanical 13:
  lines w0.1: -2,1.6 -1.6,2 ; -2,-2 -2,2 2,2 2,-2 -2,-2
Mechanical 15:
  lines w0.05: -2.625,-2.625 -2.625,2.625 2.625,2.625 2.625,-2.625 -2.625,-2.625
3D body "ES7210.stp": height 0.8, standoff 0, extent -2.05,-2.05 2.05,2.05

## QFN50P350X900X80-43N-D [mm]
pads (43):
  rect 0.85x0.3 smd: 1(-1.8,4) 2(-1.8,3.5) 3(-1.8,3) 4(-1.8,2.5) 5(-1.8,2) 6(-1.8,1.5) 7(-1.8,1) 8(-1.8,0.5) 9(-1.8,0) 10(-1.8,-0.5) 11(-1.8,-1) 12(-1.8,-1.5) 13(-1.8,-2) 14(-1.8,-2.5) 15(-1.8,-3) 16(-1.8,-3.5) 17(-1.8,-4) 22(1.8,-4) 23(1.8,-3.5) 24(1.8,-3) 25(1.8,-2.5) 26(1.8,-2) 27(1.8,-1.5) 28(1.8,-1) 29(1.8,-0.5) 30(1.8,0) 31(1.8,0.5) 32(1.8,1) 33(1.8,1.5) 34(1.8,2) 35(1.8,2.5) 36(1.8,3) 37(1.8,3.5) 38(1.8,4)
  rect 0.3x0.85 smd: 18(-0.75,-4.45) 19(-0.25,-4.45) 20(0.25,-4.45) 21(0.75,-4.45) 39(0.75,4.45) 40(0.25,4.45) 41(-0.25,4.45) 42(-0.75,4.45)
  rect 2.15x7.65 smd: 43(0,0)
Top Overlay:
  circle w0.25: c-2.1,4.75 r0.125
Mechanical 13:
  lines w0.1: -1.75,4 -1.25,4.5 ; -1.75,-4.5 -1.75,4.5 1.75,4.5 1.75,-4.5 -1.75,-4.5
Mechanical 15:
  lines w0.05: -2.375,-5.125 -2.375,5.125 2.375,5.125 2.375,-5.125 -2.375,-5.125
3D body "HD3SS6126RUAR.stp": height 0.8, standoff 0, extent -1.75,-4.5 1.75,4.5

## QFN50P400X400X100-25N-D [mm]
pads (25):
  rect 0.8x0.3 smd: 1(-2,1.25) 2(-2,0.75) 3(-2,0.25) 4(-2,-0.25) 5(-2,-0.75) 6(-2,-1.25) 13(2,-1.25) 14(2,-0.75) 15(2,-0.25) 16(2,0.25) 17(2,0.75) 18(2,1.25)
  rect 0.3x0.8 smd: 7(-1.25,-2) 8(-0.75,-2) 9(-0.25,-2) 10(0.25,-2) 11(0.75,-2) 12(1.25,-2) 19(1.25,2) 20(0.75,2) 21(0.25,2) 22(-0.25,2) 23(-0.75,2) 24(-1.25,2)
  rect 2.8x2.8 smd: 25(0,0)
Top Overlay:
  circle w0.25: c-2.4,2 r0.125
Mechanical 13:
  lines w0.1: -2,1.5 -1.5,2 ; -2,-2 -2,2 2,2 2,-2 -2,-2
Mechanical 15:
  lines w0.05: -2.625,-2.625 -2.625,2.625 2.625,2.625 2.625,-2.625 -2.625,-2.625
3D body "STUSB4500QTR.stp": height 1, standoff 0, extent -2.05,-2.05 2.05,2.05